# Altium footprint library PcbComponents.PcbLib: 7 footprints
Each footprint in its own frame and in the unit in brackets; x right, y up, seen from the top. Pads: shape width x height; smd on the part's side, far side on the other; paste and mask are expansions set on the pad; w line width, h text height; cw(c..) or ccw(c..) is an arc to the next point about the centre after c.
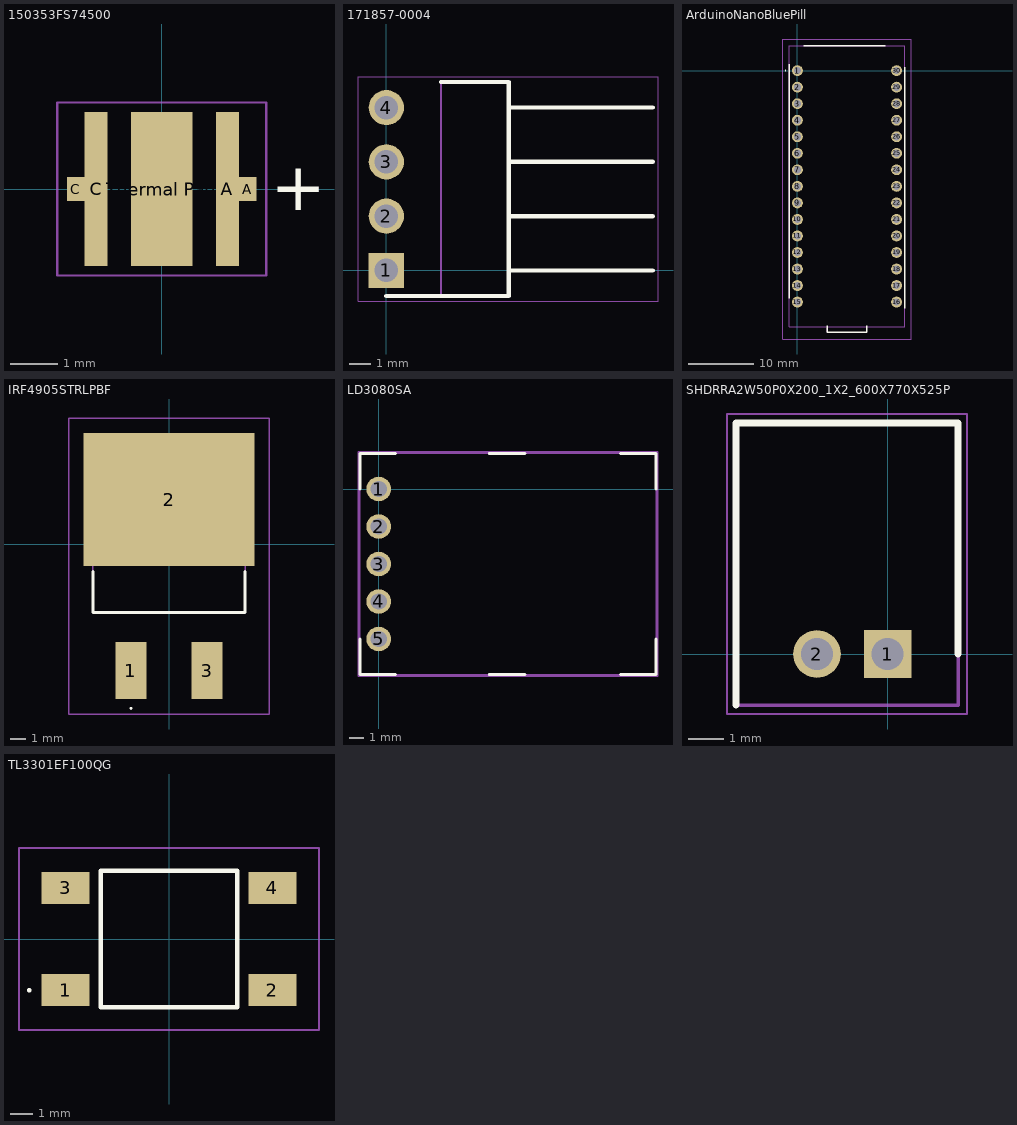
[diagram p0: the footprints below, top view; thin cyan lines are the x and y axes]

## 150353FS74500 [mm]
pads (5):
  rect 0.48x3.25 smd: A(1.385,0) C(-1.385,0)
  rect 0.375x0.5 smd: A(1.813,0) C(-1.813,0)
  rect 1.3x3.25 smd: "Thermal Pad"(0,0)
Top Overlay:
  text "+" at 2.3,-0.45 h1.02
Top Designator:
  text ".Designator" at -1.578,2.128 h0.7
Top Courtyard:
  lines w0.05: -0.5,0 0.5,0 ; 0,-0.5 0,0.5 ; -2.2,-1.825 2.2,-1.825 2.2,1.825 -2.2,1.825 -2.2,-1.825
3D body "150353xS75400.stp": height 2.1, standoff 0, extent -1.7,-1.7 1.7,1.7

## 171857-0004 [mm]
pads (4):
  rect 1.65x1.65 / inner round 1.65 / far side rect 1.65x1.65 hole 1.1: 1(0,0)
  round 1.65 hole 1.1: 2(0,2.54) 3(0,5.08) 4(0,7.62)
Top Overlay:
  lines w0.2: 0,-1.195 5.735,-1.195 5.735,8.815 2.555,8.815 ; 5.735,0 12.465,0 ; 5.735,2.54 12.465,2.54 ; 5.735,5.08 12.465,5.08 ; 5.735,7.62 12.465,7.62
Mechanical 15:
  lines w0.1: 2.555,-1.195 2.555,8.815 5.735,8.815 5.735,-1.195 2.555,-1.195
Mechanical 20:
  lines w0.05: -1.325,-1.445 -1.325,9.065 12.715,9.065 12.715,-1.445 -1.325,-1.445
3D body "171857-0004.stp": height 6.38, standoff -2.51, extent -0.318,-1.194 13.348,8.814

## ArduinoNanoBluePill [mm]
pads (30):
  round 1.665 hole 1.11: 1(0,0) 2(0,-2.54) 3(0,-5.08) 4(0,-7.62) 5(0,-10.16) 6(0,-12.7) 7(0,-15.24) 8(0,-17.78) 9(0,-20.32) 10(0,-22.86) 11(0,-25.4) 12(0,-27.94) 13(0,-30.48) 14(0,-33.02) 15(0,-35.56) 16(15.24,-35.56) 17(15.24,-33.02) 18(15.24,-30.48) 19(15.24,-27.94) 20(15.24,-25.4) 21(15.24,-22.86) 22(15.24,-20.32) 23(15.24,-17.78) 24(15.24,-15.24) 25(15.24,-12.7) 26(15.24,-10.16) 27(15.24,-7.62) 28(15.24,-5.08) 29(15.24,-2.54) 30(15.24,0)
Top Overlay:
  lines w0.1: -1.9,0 cw(c-1.85,0) -1.8,0 cw(c-1.85,0) -1.9,0
  lines w0.2: -1.265,-35 -1.265,1 ; 1,3.86 13.5,3.86 ; 4.62,-39.23 4.62,-40.23 10.62,-40.23 10.62,-39.23 ; 16.5,-15.24 16.505,-36.5 ; 16.505,-15.24 16.505,0.5
Mechanical 13:
  lines w0.1: 4.62,-39.32 4.62,-40.23 10.62,-40.23 10.62,-39.32 ; -1.265,-39.32 16.505,-39.32 16.505,3.86 -1.265,3.86 -1.265,-39.32
Mechanical 15:
  lines w0.1: -2.265,-41.23 17.505,-41.23 17.505,4.86 -2.265,4.86 -2.265,-41.23
3D body "ABX00053.stp": height 8.09, standoff -5.91, extent -1.265,-40.72 16.505,3.86

## IRF4905STRLPBF [mm]
pads (3):
  rect 2.08x3.81 smd: 1(-2.54,-8.427) 3(2.54,-8.427)
  rect 11.43x8.89 smd: 2(0,3.003)
Top Overlay:
  lines w0.1: -2.54,-11 cw(c-2.54,-10.95) -2.54,-10.9 cw(c-2.54,-10.95) -2.54,-11
  lines w0.2: -5.08,-1.8 -5.08,-4.54 5.08,-4.54 5.08,-1.8
Mechanical 15:
  lines w0.1: -5.08,-4.54 -5.08,4.54 5.08,4.54 5.08,-4.54 -5.08,-4.54
Mechanical 20:
  lines w0.1: -6.715,-11.332 -6.715,8.448 6.715,8.448 6.715,-11.332 -6.715,-11.332
3D body "IRF4905STRLPBF.stp": height 4.52, standoff -0.18, extent -5.08,-9.274 5.08,5.971

## LD3080SA [mm]
pads (5):
  round 1.665 hole 1.11: 1(0,0) 2(0,-2.54) 3(0,-5.08) 4(0,-7.62) 5(0,-10.16)
Top Overlay:
  lines w0.2: -1.27,-10.16 -1.27,-12.573 1.143,-12.573 ; -1.27,0 -1.27,2.413 1.143,2.413 ; 7.493,-12.573 9.906,-12.573 ; 7.493,2.413 9.906,2.413 ; 16.383,-12.573 18.796,-12.573 18.796,-10.16 ; 16.383,2.413 18.796,2.413 18.796,0
Mechanical 13:
  lines w0.1: -1.27,-12.573 -1.27,-5.08 -1.27,2.413 18.796,2.413 18.796,-12.573 -1.27,-12.573
Mechanical 15:
  lines w0.1: -1.397,-12.7 -1.397,2.54 18.923,2.54 18.923,-12.7 -1.397,-12.7

## SHDRRA2W50P0X200_1X2_600X770X525P [mm]
pads (2):
  rect 1.35x1.35 / inner round 1.35 / far side rect 1.35x1.35 hole 0.9: 1(0,0)
  round 1.35 hole 0.9: 2(-2,0)
Top Overlay:
  lines w0.2: -4.3,-1.45 -4.3,6.55 2,6.55 2,0
Mechanical 15:
  lines w0.1: -4.3,-1.45 -4.3,6.55 2,6.55 2,-1.45 -4.3,-1.45
Mechanical 20:
  lines w0.05: -4.55,-1.7 -4.55,6.8 2.25,6.8 2.25,-1.7 -4.55,-1.7
3D body "440055-2.stp": height 4.97, standoff -3.37, extent -3.968,-1.524 2.032,6.176

## TL3301EF100QG [mm]
pads (4):
  rect 2.1x1.4 smd: 1(-4.55,-2.25) 2(4.55,-2.25) 3(-4.55,2.25) 4(4.55,2.25)
Top Overlay:
  lines w0.1: -6.2,-2.25 ccw(c-6.15,-2.25) -6.1,-2.25 ccw(c-6.15,-2.25) -6.2,-2.25
  lines w0.2: -3,-3 -3,3 3,3 3,-3 -3,-3
Mechanical 13:
  lines w0.1: -3,-3 -3,3 3,3 3,-3 -3,-3
Mechanical 15:
  lines w0.1: -6.6,-4 -6.6,4 6.6,4 6.6,-4 -6.6,-4
3D body "TL3301EF100QG.stp": height 7.4, standoff 0, extent -5,-3 5,3